# Altium integrated library Analog Devices Operational Amplifiers.IntLib: 2102 symbols (part 19 of 70)
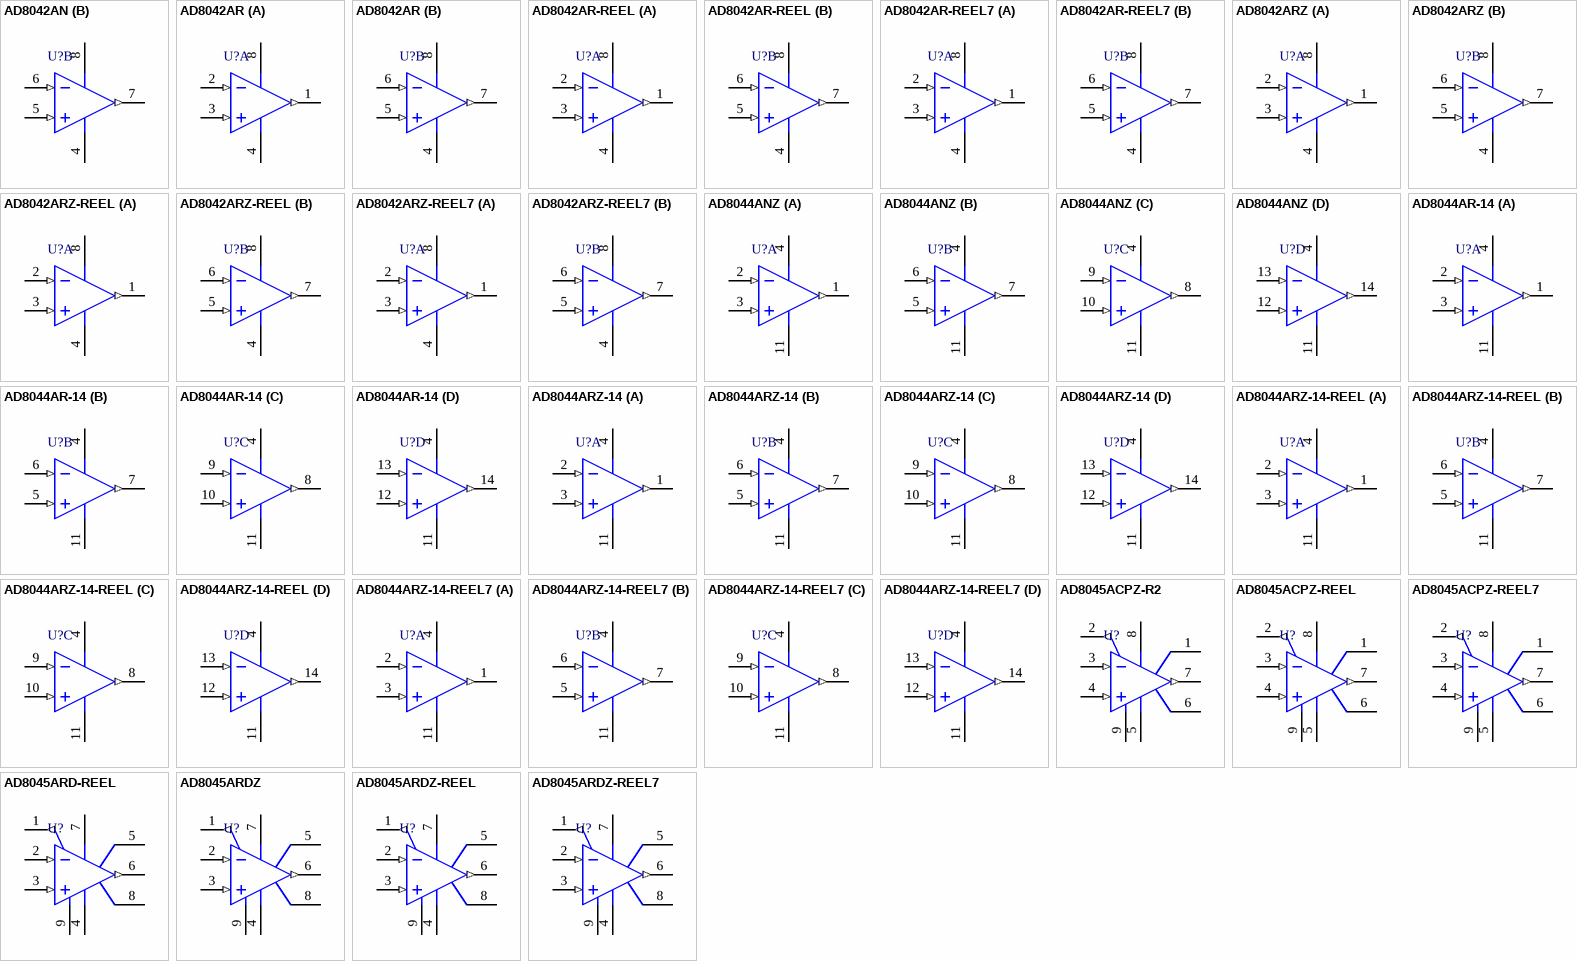
[diagram p132: symbols AD8042AN to AD8045ARDZ-REEL7]

## AD8042ARZ-REEL7
designator U?
Double Channel Low Power Operational Amplifier, 170 MHz BW, 225 V/us SR, Industrial, 8-pin SOIC (R-8), Reel; Generic Part Number: AD8042; Manufacturer: Analog Devices; PartNumber: AD8042ARZ-REEL7; Amplifiers Per Package: 2; Input Bias Current: 1.2uA; Input Offset Voltage: 3mV; Iq/Amp: 7mA; Small Signal Bandwidth: 170MHz; V Span Max: 12V; V Span Min: 3V; DatasheetVersion: Rev. E; PackageVersion: 060506-A; PackageReference: R-8; PackageDescription: 8-Pin Standard Small Outline Package, Body 3.9 x 4.9 mm, Pitch 1.27 mm; Supplier 1: Digi-Key; Supplier Part Number 1: AD8042ARZ-REEL7TR-ND; Supplier 2: Digi-Key; Supplier Part Number 2: AD8042ARZ-REEL7CT-ND; Supplier 3: Digi-Key; Supplier Part Number 3: AD8042ARZ-REEL7DKR-ND; Supplier 4: Newark; Supplier Part Number 4: 82H2957; Slew Rate: 225V/us; Mounting Technology: Surface Mount; Code_JEDEC: MS-012-AA; ComponentLink1Description: Manufacturer URL; ComponentLink1URL: http://www.analog.com/en/index.html; ComponentLink2Description: Datasheet; ComponentLink2URL: http://www.analog.com/static/imported-files/data_sheets/AD8042.pdf; ComponentLink3Description: Package Specification; ComponentLink3URL: http://www.analog.com/static/imported-files/packages/PKG_PDF/SOIC_Narrow%20(R)/R_8.pdf; ComponentLink4Description: Reference Circuit; ComponentLink4URL: http://www.analog.com/en/all-operational-amplifiers-op-amps/operational-amplifiers-op-amps/ad8042/products/product.html#product-recommendations
footprint ADI-R-8_N (SOIC, 8-Leads, Body 4.9x3.9mm, Pitch 1.27mm, IPC Medium Density)
footprint ADI-R-8_L (SOIC, 8-Leads, Body 4.9x3.9mm, Pitch 1.27mm, IPC High Density)
footprint ADI-R-8_M (SOIC, 8-Leads, Body 4.9x3.9mm, Pitch 1.27mm, IPC Low Density)
pins on every part: 4 -VS (power), 8 +VS (power)
part A pins: 1 OUT 1 (out), 2 -IN 1 (in), 3 +IN 1 (in)
part B pins: 5 +IN 2 (in), 6 -IN 2 (in), 7 OUT 2 (out)

## AD8044ANZ
designator U?
Quad Channel Low Power Operational Amplifier, 160 MHz BW, 190 V/us SR, Industrial, 14-pin DIP (N-14), Tube; Generic Part Number: AD8044; Manufacturer: Analog Devices; PartNumber: AD8044ANZ; Amplifiers Per Package: 4; Input Bias Current: 2uA; Input Offset Voltage: 1.4mV; Iq/Amp: 3.4mA; Small Signal Bandwidth: 160MHz; V Span Max: 12V; V Span Min: 3V; DatasheetVersion: Rev. B; PackageVersion: 070606-A; PackageReference: N-14; PackageDescription: 14-Pin Plastic Dual In-Line Package, Row spacing 7.62 mm, Pitch 2.54 mm; Supplier 1: Digi-Key; Supplier Part Number 1: AD8044ANZ-ND; Supplier 2: Farnell; Supplier Part Number 2: 2074887; Supplier 3: Newark; Supplier Part Number 3: 76T1824; Supplier 4: Newark; Supplier Part Number 4: 59K6278; Slew Rate: 190V/us; Mounting Technology: Through Hole; Code_JEDEC: MS-001; ComponentLink1Description: Manufacturer URL; ComponentLink1URL: http://www.analog.com/en/index.html; ComponentLink2Description: Datasheet; ComponentLink2URL: http://www.analog.com/static/imported-files/data_sheets/AD8044.pdf; ComponentLink3Description: Package Specification; ComponentLink3URL: http://www.analog.com/static/imported-files/packages/N_14.pdf
footprint ADI-N-14 (DIP, 14-Leads, Body 19.18x6.605mm, Pitch 2.54mm)
pins on every part: 4 +V (power), 11 -V (power)
part A pins: 1 OUT A (out), 2 -IN A (in), 3 +IN A (in)
part B pins: 5 +IN B (in), 6 -IN B (in), 7 OUT B (out)
part C pins: 8 OUT C (out), 9 -IN C (in), 10 +IN C (in)
part D pins: 12 +IN D (in), 13 -IN D (in), 14 OUT D (out)

## AD8044AR-14
designator U?
Quad Channel Low Power Operational Amplifier, 160 MHz BW, 190 V/us SR, Industrial, 14-pin SOIC (R-14), Tube; Generic Part Number: AD8044; Manufacturer: Analog Devices; PartNumber: AD8044AR-14; Amplifiers Per Package: 4; Input Bias Current: 2uA; Input Offset Voltage: 1.4mV; Iq/Amp: 3.4mA; Small Signal Bandwidth: 160MHz; V Span Max: 12V; V Span Min: 3V; DatasheetVersion: Rev. B; PackageVersion: 060606-A; PackageReference: R-14; PackageDescription: 14-Pin Standard Small Outline Package, Body 8.65 x 3.9 mm, Pitch 1.27 mm; Supplier 1: Digi-Key; Supplier Part Number 1: AD8044AR-14-ND; Slew Rate: 190V/us; Mounting Technology: Surface Mount; Code_JEDEC: MS-012-AB; ComponentLink1Description: Manufacturer URL; ComponentLink1URL: http://www.analog.com/en/index.html; ComponentLink2Description: Datasheet; ComponentLink2URL: http://www.analog.com/static/imported-files/data_sheets/AD8044.pdf; ComponentLink3Description: Package Specification; ComponentLink3URL: http://www.analog.com/static/imported-files/packages/PKG_PDF/SOIC_Narrow%20(R)/R_14.pdf
footprint ADI-R-14_N (SOIC, 14-Leads, Body 8.65x3.9mm, Pitch 1.27mm, IPC Medium Density)
footprint ADI-R-14_L (SOIC, 14-Leads, Body 8.65x3.9mm, Pitch 1.27mm, IPC High Density)
footprint ADI-R-14_M (SOIC, 14-Leads, Body 8.65x3.9mm, Pitch 1.27mm, IPC Low Density)
pins on every part: 4 +V (power), 11 -V (power)
part A pins: 1 OUT A (out), 2 -IN A (in), 3 +IN A (in)
part B pins: 5 +IN B (in), 6 -IN B (in), 7 OUT B (out)
part C pins: 8 OUT C (out), 9 -IN C (in), 10 +IN C (in)
part D pins: 12 +IN D (in), 13 -IN D (in), 14 OUT D (out)

## AD8044ARZ-14
designator U?
Quad Channel Low Power Operational Amplifier, 160 MHz BW, 190 V/us SR, Industrial, 14-pin SOIC (R-14), Tube; Generic Part Number: AD8044; Manufacturer: Analog Devices; PartNumber: AD8044ARZ-14; Amplifiers Per Package: 4; Input Bias Current: 2uA; Input Offset Voltage: 1.4mV; Iq/Amp: 3.4mA; Small Signal Bandwidth: 160MHz; V Span Max: 12V; V Span Min: 3V; DatasheetVersion: Rev. B; PackageVersion: 060606-A; PackageReference: R-14; PackageDescription: 14-Pin Standard Small Outline Package, Body 8.65 x 3.9 mm, Pitch 1.27 mm; Supplier 1: Digi-Key; Supplier Part Number 1: AD8044ARZ-14-ND; Supplier 2: Farnell; Supplier Part Number 2: 1660977; Supplier 3: Newark; Supplier Part Number 3: 59K6280; Slew Rate: 190V/us; Mounting Technology: Surface Mount; Code_JEDEC: MS-012-AB; ComponentLink1Description: Manufacturer URL; ComponentLink1URL: http://www.analog.com/en/index.html; ComponentLink2Description: Datasheet; ComponentLink2URL: http://www.analog.com/static/imported-files/data_sheets/AD8044.pdf; ComponentLink3Description: Package Specification; ComponentLink3URL: http://www.analog.com/static/imported-files/packages/PKG_PDF/SOIC_Narrow%20(R)/R_14.pdf
footprint ADI-R-14_N (SOIC, 14-Leads, Body 8.65x3.9mm, Pitch 1.27mm, IPC Medium Density)
footprint ADI-R-14_L (SOIC, 14-Leads, Body 8.65x3.9mm, Pitch 1.27mm, IPC High Density)
footprint ADI-R-14_M (SOIC, 14-Leads, Body 8.65x3.9mm, Pitch 1.27mm, IPC Low Density)
pins on every part: 4 +V (power), 11 -V (power)
part A pins: 1 OUT A (out), 2 -IN A (in), 3 +IN A (in)
part B pins: 5 +IN B (in), 6 -IN B (in), 7 OUT B (out)
part C pins: 8 OUT C (out), 9 -IN C (in), 10 +IN C (in)
part D pins: 12 +IN D (in), 13 -IN D (in), 14 OUT D (out)

## AD8044ARZ-14-REEL
designator U?
Quad Channel Low Power Operational Amplifier, 160 MHz BW, 190 V/us SR, Industrial, 14-pin SOIC (R-14), Reel; Generic Part Number: AD8044; Manufacturer: Analog Devices; PartNumber: AD8044ARZ-14-REEL; Amplifiers Per Package: 4; Input Bias Current: 2uA; Input Offset Voltage: 1.4mV; Iq/Amp: 3.4mA; Small Signal Bandwidth: 160MHz; V Span Max: 12V; V Span Min: 3V; DatasheetVersion: Rev. B; PackageVersion: 060606-A; PackageReference: R-14; PackageDescription: 14-Pin Standard Small Outline Package, Body 8.65 x 3.9 mm, Pitch 1.27 mm; Supplier 1: Digi-Key; Supplier Part Number 1: AD8044ARZ-14-REEL-ND; Supplier 2: Newark; Supplier Part Number 2: 59K6281; Slew Rate: 190V/us; Mounting Technology: Surface Mount; Code_JEDEC: MS-012-AB; ComponentLink1Description: Manufacturer URL; ComponentLink1URL: http://www.analog.com/en/index.html; ComponentLink2Description: Datasheet; ComponentLink2URL: http://www.analog.com/static/imported-files/data_sheets/AD8044.pdf; ComponentLink3Description: Package Specification; ComponentLink3URL: http://www.analog.com/static/imported-files/packages/PKG_PDF/SOIC_Narrow%20(R)/R_14.pdf
footprint ADI-R-14_N (SOIC, 14-Leads, Body 8.65x3.9mm, Pitch 1.27mm, IPC Medium Density)
footprint ADI-R-14_L (SOIC, 14-Leads, Body 8.65x3.9mm, Pitch 1.27mm, IPC High Density)
footprint ADI-R-14_M (SOIC, 14-Leads, Body 8.65x3.9mm, Pitch 1.27mm, IPC Low Density)
pins on every part: 4 +V (power), 11 -V (power)
part A pins: 1 OUT A (out), 2 -IN A (in), 3 +IN A (in)
part B pins: 5 +IN B (in), 6 -IN B (in), 7 OUT B (out)
part C pins: 8 OUT C (out), 9 -IN C (in), 10 +IN C (in)
part D pins: 12 +IN D (in), 13 -IN D (in), 14 OUT D (out)

## AD8044ARZ-14-REEL7
designator U?
Quad Channel Low Power Operational Amplifier, 160 MHz BW, 190 V/us SR, Industrial, 14-pin SOIC (R-14), Reel; Generic Part Number: AD8044; Manufacturer: Analog Devices; PartNumber: AD8044ARZ-14-REEL7; Amplifiers Per Package: 4; Input Bias Current: 2uA; Input Offset Voltage: 1.4mV; Iq/Amp: 3.4mA; Small Signal Bandwidth: 160MHz; V Span Max: 12V; V Span Min: 3V; DatasheetVersion: Rev. B; PackageVersion: 060606-A; PackageReference: R-14; PackageDescription: 14-Pin Standard Small Outline Package, Body 8.65 x 3.9 mm, Pitch 1.27 mm; Supplier 1: Digi-Key; Supplier Part Number 1: AD8044ARZ-14REEL7-ND; Slew Rate: 190V/us; Mounting Technology: Surface Mount; Code_JEDEC: MS-012-AB; ComponentLink1Description: Manufacturer URL; ComponentLink1URL: http://www.analog.com/en/index.html; ComponentLink2Description: Datasheet; ComponentLink2URL: http://www.analog.com/static/imported-files/data_sheets/AD8044.pdf; ComponentLink3Description: Package Specification; ComponentLink3URL: http://www.analog.com/static/imported-files/packages/PKG_PDF/SOIC_Narrow%20(R)/R_14.pdf
footprint ADI-R-14_N (SOIC, 14-Leads, Body 8.65x3.9mm, Pitch 1.27mm, IPC Medium Density)
footprint ADI-R-14_L (SOIC, 14-Leads, Body 8.65x3.9mm, Pitch 1.27mm, IPC High Density)
footprint ADI-R-14_M (SOIC, 14-Leads, Body 8.65x3.9mm, Pitch 1.27mm, IPC Low Density)
pins on every part: 4 +V (power), 11 -V (power)
part A pins: 1 OUT A (out), 2 -IN A (in), 3 +IN A (in)
part B pins: 5 +IN B (in), 6 -IN B (in), 7 OUT B (out)
part C pins: 8 OUT C (out), 9 -IN C (in), 10 +IN C (in)
part D pins: 12 +IN D (in), 13 -IN D (in), 14 OUT D (out)

## AD8045ACPZ-R2
designator U?
Single Channel Ultra Low Distortion  Operational Amplifier, 1 GHz BW, 1.35 KV/us SR, Industrial, 8-pin QFN (CP-8-2), Reel; Generic Part Number: AD8045; Manufacturer: Analog Devices; PartNumber: AD8045ACPZ-R2; Amplifiers Per Package: 1; Input Bias Current: 2uA; Input Offset Voltage: 200uV; Iq/Amp: 19mA; Small Signal Bandwidth: 1GHz; V Span Max: 12V; V Span Min: 3.3V; DatasheetVersion: Rev. A; PackageVersion: 061507-B; PackageReference: CP-8-2; PackageDescription: 8-Pin Lead Frame Chip Scale Package, Body 3 x 3 mm, Pitch 0.5 mm; Supplier 1: Farnell; Supplier Part Number 1: 1078299; Supplier 2: Farnell; Supplier Part Number 2: 1078299RL; Supplier 3: Newark; Supplier Part Number 3: 59K6288; Slew Rate: 1.35KV/us; Mounting Technology: Surface Mount; ComponentLink1Description: Manufacturer URL; ComponentLink1URL: http://www.analog.com/en/index.html; ComponentLink2Description: Datasheet; ComponentLink2URL: http://www.analog.com/static/imported-files/data_sheets/AD8045.pdf; ComponentLink3Description: Package Specification; ComponentLink3URL: http://www.analog.com/static/imported-files/packages/56953322593982CP_8_2.pdf
footprint ADI-CP-8-2_N (QFN, 8-Leads, Body 3x3mm, Pitch 0.5mm, Thermal Pad 1.45X1.74mm, IPC Medium Density)
footprint ADI-CP-8-2_L (QFN, 8-Leads, Body 3x3mm, Pitch 0.5mm, Thermal Pad 1.45X1.74mm, IPC High Density)
footprint ADI-CP-8-2_M (QFN, 8-Leads, Body 3x3mm, Pitch 0.5mm, Thermal Pad 1.45X1.74mm, IPC Low Density)
pins: 1 NC "No Connect", 2 FEEDBACK (out) "Feedback Pin", 3 -IN (in) "Inverting Input", 4 +IN (in) "Noninverting Input", 5 -VS (power) "Negative Supply", 6 NC "No Connect", 7 OUT (out) "Output", 8 +VS (power) "Positive Supply", 9 EP (power) "Must Be Connected to -VS or Electrically Isolated"

## AD8045ACPZ-REEL
designator U?
Single Channel Ultra Low Distortion  Operational Amplifier, 1 GHz BW, 1.35 KV/us SR, Industrial, 8-pin QFN (CP-8-2), Reel; Generic Part Number: AD8045; Manufacturer: Analog Devices; PartNumber: AD8045ACPZ-REEL; Amplifiers Per Package: 1; Input Bias Current: 2uA; Input Offset Voltage: 200uV; Iq/Amp: 19mA; Small Signal Bandwidth: 1GHz; V Span Max: 12V; V Span Min: 3.3V; DatasheetVersion: Rev. A; PackageVersion: 061507-B; PackageReference: CP-8-2; PackageDescription: 8-Pin Lead Frame Chip Scale Package, Body 3 x 3 mm, Pitch 0.5 mm; Supplier 1: Digi-Key; Supplier Part Number 1: AD8045ACPZ-REEL-ND; Supplier 2: Newark; Supplier Part Number 2: 59K6286; Slew Rate: 1.35KV/us; Mounting Technology: Surface Mount; ComponentLink1Description: Manufacturer URL; ComponentLink1URL: http://www.analog.com/en/index.html; ComponentLink2Description: Datasheet; ComponentLink2URL: http://www.analog.com/static/imported-files/data_sheets/AD8045.pdf; ComponentLink3Description: Package Specification; ComponentLink3URL: http://www.analog.com/static/imported-files/packages/56953322593982CP_8_2.pdf
footprint ADI-CP-8-2_N (QFN, 8-Leads, Body 3x3mm, Pitch 0.5mm, Thermal Pad 1.45X1.74mm, IPC Medium Density)
footprint ADI-CP-8-2_L (QFN, 8-Leads, Body 3x3mm, Pitch 0.5mm, Thermal Pad 1.45X1.74mm, IPC High Density)
footprint ADI-CP-8-2_M (QFN, 8-Leads, Body 3x3mm, Pitch 0.5mm, Thermal Pad 1.45X1.74mm, IPC Low Density)
pins: 1 NC "No Connect", 2 FEEDBACK (out) "Feedback Pin", 3 -IN (in) "Inverting Input", 4 +IN (in) "Noninverting Input", 5 -VS (power) "Negative Supply", 6 NC "No Connect", 7 OUT (out) "Output", 8 +VS (power) "Positive Supply", 9 EP (power) "Must Be Connected to -VS or Electrically Isolated"

## AD8045ACPZ-REEL7
designator U?
Single Channel Ultra Low Distortion  Operational Amplifier, 1 GHz BW, 1.35 KV/us SR, Industrial, 8-pin QFN (CP-8-2), Reel; Generic Part Number: AD8045; Manufacturer: Analog Devices; PartNumber: AD8045ACPZ-REEL7; Amplifiers Per Package: 1; Input Bias Current: 2uA; Input Offset Voltage: 200uV; Iq/Amp: 19mA; Small Signal Bandwidth: 1GHz; V Span Max: 12V; V Span Min: 3.3V; DatasheetVersion: Rev. A; PackageVersion: 061507-B; PackageReference: CP-8-2; PackageDescription: 8-Pin Lead Frame Chip Scale Package, Body 3 x 3 mm, Pitch 0.5 mm; Supplier 1: Digi-Key; Supplier Part Number 1: AD8045ACPZ-REEL7TR-ND; Supplier 2: Digi-Key; Supplier Part Number 2: AD8045ACPZ-REEL7CT-ND; Supplier 3: Digi-Key; Supplier Part Number 3: AD8045ACPZ-REEL7DKR-ND; Supplier 4: Newark; Supplier Part Number 4: 59K6287; Slew Rate: 1.35KV/us; Mounting Technology: Surface Mount; ComponentLink1Description: Manufacturer URL; ComponentLink1URL: http://www.analog.com/en/index.html; ComponentLink2Description: Datasheet; ComponentLink2URL: http://www.analog.com/static/imported-files/data_sheets/AD8045.pdf; ComponentLink3Description: Package Specification; ComponentLink3URL: http://www.analog.com/static/imported-files/packages/56953322593982CP_8_2.pdf
footprint ADI-CP-8-2_N (QFN, 8-Leads, Body 3x3mm, Pitch 0.5mm, Thermal Pad 1.45X1.74mm, IPC Medium Density)
footprint ADI-CP-8-2_L (QFN, 8-Leads, Body 3x3mm, Pitch 0.5mm, Thermal Pad 1.45X1.74mm, IPC High Density)
footprint ADI-CP-8-2_M (QFN, 8-Leads, Body 3x3mm, Pitch 0.5mm, Thermal Pad 1.45X1.74mm, IPC Low Density)
pins: 1 NC "No Connect", 2 FEEDBACK (out) "Feedback Pin", 3 -IN (in) "Inverting Input", 4 +IN (in) "Noninverting Input", 5 -VS (power) "Negative Supply", 6 NC "No Connect", 7 OUT (out) "Output", 8 +VS (power) "Positive Supply", 9 EP (power) "Must Be Connected to -VS or Electrically Isolated"

## AD8045ARD-REEL
designator U?
Single Channel Ultra Low Distortion  Operational Amplifier, 1 GHz BW, 1.35 KV/us SR, Industrial, 8-pin SOIC (RD-8-1), Reel; Generic Part Number: AD8045; Manufacturer: Analog Devices; PartNumber: AD8045ARD-REEL; Amplifiers Per Package: 1; Input Bias Current: 2uA; Input Offset Voltage: 200uV; Iq/Amp: 19mA; Small Signal Bandwidth: 1GHz; V Span Max: 12V; V Span Min: 3.3V; DatasheetVersion: Rev. A; PackageVersion: 060506-A; PackageReference: RD-8-1; PackageDescription: 8-Pin Standard Small Outline Package, Body 4.9 x 3.9 mm, Pitch 1.27 mm; Supplier 1: Newark; Supplier Part Number 1: 59K6290; Slew Rate: 1.35KV/us; Mounting Technology: Surface Mount; Code_JEDEC: MS-012-AA; ComponentLink1Description: Manufacturer URL; ComponentLink1URL: http://www.analog.com/en/index.html; ComponentLink2Description: Datasheet; ComponentLink2URL: http://www.analog.com/static/imported-files/data_sheets/AD8045.pdf; ComponentLink3Description: Package Specification; ComponentLink3URL: http://www.analog.com/static/imported-files/packages/PKG_PDF/SOIC_ED(RD)/RD_8_1.pdf
footprint ADI-RD-8-1_N (SOIC, 8-Leads, Body 4.9x3.9mm, Pitch 1.27mm, Thermal Pad 2.29x2.29mm, IPC Medium Density)
footprint ADI-RD-8-1_L (SOIC, 8-Leads, Body 4.9x3.9mm, Pitch 1.27mm, Thermal Pad 2.29x2.29mm, IPC High Density)
footprint ADI-RD-8-1_M (SOIC, 8-Leads, Body 4.9x3.9mm, Pitch 1.27mm, Thermal Pad 2.29x2.29mm, IPC Low Density)
pins: 1 FEEDBACK (out) "Feedback Pin", 2 -IN (in) "Inverting Input", 3 +IN (in) "Noninverting Input", 4 -VS (power) "Negative Supply", 5 NC, 6 OUT (out) "Output", 7 +VS (power) "Positive Supply", 8 NC, 9 EP (power) "Must Be Connected to -VS or Electrically Isolated"

## AD8045ARDZ
designator U?
Single Channel Ultra Low Distortion  Operational Amplifier, 1 GHz BW, 1.35 KV/us SR, Industrial, 8-pin SOIC (RD-8-1), Tube; Generic Part Number: AD8045; Manufacturer: Analog Devices; PartNumber: AD8045ARDZ; Amplifiers Per Package: 1; Input Bias Current: 2uA; Input Offset Voltage: 200uV; Iq/Amp: 19mA; Small Signal Bandwidth: 1GHz; V Span Max: 12V; V Span Min: 3.3V; DatasheetVersion: Rev. A; PackageVersion: 060506-A; PackageReference: RD-8-1; PackageDescription: 8-Pin Standard Small Outline Package, Body 4.9 x 3.9 mm, Pitch 1.27 mm; Supplier 1: Digi-Key; Supplier Part Number 1: AD8045ARDZ-ND; Supplier 2: Farnell; Supplier Part Number 2: 9079424; Supplier 3: Newark; Supplier Part Number 3: 19M0920; Slew Rate: 1.35KV/us; Mounting Technology: Surface Mount; Code_JEDEC: MS-012-AA; ComponentLink1Description: Manufacturer URL; ComponentLink1URL: http://www.analog.com/en/index.html; ComponentLink2Description: Datasheet; ComponentLink2URL: http://www.analog.com/static/imported-files/data_sheets/AD8045.pdf; ComponentLink3Description: Package Specification; ComponentLink3URL: http://www.analog.com/static/imported-files/packages/PKG_PDF/SOIC_ED(RD)/RD_8_1.pdf
footprint ADI-RD-8-1_N (SOIC, 8-Leads, Body 4.9x3.9mm, Pitch 1.27mm, Thermal Pad 2.29x2.29mm, IPC Medium Density)
footprint ADI-RD-8-1_L (SOIC, 8-Leads, Body 4.9x3.9mm, Pitch 1.27mm, Thermal Pad 2.29x2.29mm, IPC High Density)
footprint ADI-RD-8-1_M (SOIC, 8-Leads, Body 4.9x3.9mm, Pitch 1.27mm, Thermal Pad 2.29x2.29mm, IPC Low Density)
pins: 1 FEEDBACK (out) "Feedback Pin", 2 -IN (in) "Inverting Input", 3 +IN (in) "Noninverting Input", 4 -VS (power) "Negative Supply", 5 NC, 6 OUT (out) "Output", 7 +VS (power) "Positive Supply", 8 NC, 9 EP (power) "Must Be Connected to -VS or Electrically Isolated"

## AD8045ARDZ-REEL
designator U?
Single Channel Ultra Low Distortion  Operational Amplifier, 1 GHz BW, 1.35 KV/us SR, Industrial, 8-pin SOIC (RD-8-1), Reel; Generic Part Number: AD8045; Manufacturer: Analog Devices; PartNumber: AD8045ARDZ-REEL; Amplifiers Per Package: 1; Input Bias Current: 2uA; Input Offset Voltage: 200uV; Iq/Amp: 19mA; Small Signal Bandwidth: 1GHz; V Span Max: 12V; V Span Min: 3.3V; DatasheetVersion: Rev. A; PackageVersion: 060506-A; PackageReference: RD-8-1; PackageDescription: 8-Pin Standard Small Outline Package, Body 4.9 x 3.9 mm, Pitch 1.27 mm; Supplier 1: Digi-Key; Supplier Part Number 1: AD8045ARDZ-REEL-ND; Slew Rate: 1.35KV/us; Mounting Technology: Surface Mount; Code_JEDEC: MS-012-AA; ComponentLink1Description: Manufacturer URL; ComponentLink1URL: http://www.analog.com/en/index.html; ComponentLink2Description: Datasheet; ComponentLink2URL: http://www.analog.com/static/imported-files/data_sheets/AD8045.pdf; ComponentLink3Description: Package Specification; ComponentLink3URL: http://www.analog.com/static/imported-files/packages/PKG_PDF/SOIC_ED(RD)/RD_8_1.pdf
footprint ADI-RD-8-1_N (SOIC, 8-Leads, Body 4.9x3.9mm, Pitch 1.27mm, Thermal Pad 2.29x2.29mm, IPC Medium Density)
footprint ADI-RD-8-1_L (SOIC, 8-Leads, Body 4.9x3.9mm, Pitch 1.27mm, Thermal Pad 2.29x2.29mm, IPC High Density)
footprint ADI-RD-8-1_M (SOIC, 8-Leads, Body 4.9x3.9mm, Pitch 1.27mm, Thermal Pad 2.29x2.29mm, IPC Low Density)
pins: 1 FEEDBACK (out) "Feedback Pin", 2 -IN (in) "Inverting Input", 3 +IN (in) "Noninverting Input", 4 -VS (power) "Negative Supply", 5 NC, 6 OUT (out) "Output", 7 +VS (power) "Positive Supply", 8 NC, 9 EP (power) "Must Be Connected to -VS or Electrically Isolated"

## AD8045ARDZ-REEL7
designator U?
Single Channel Ultra Low Distortion  Operational Amplifier, 1 GHz BW, 1.35 KV/us SR, Industrial, 8-pin SOIC (RD-8-1), Reel; Generic Part Number: AD8045; Manufacturer: Analog Devices; PartNumber: AD8045ARDZ-REEL7; Amplifiers Per Package: 1; Input Bias Current: 2uA; Input Offset Voltage: 200uV; Iq/Amp: 19mA; Small Signal Bandwidth: 1GHz; V Span Max: 12V; V Span Min: 3.3V; DatasheetVersion: Rev. A; PackageVersion: 060506-A; PackageReference: RD-8-1; PackageDescription: 8-Pin Standard Small Outline Package, Body 4.9 x 3.9 mm, Pitch 1.27 mm; Supplier 1: Digi-Key; Supplier Part Number 1: AD8045ARDZ-REEL7-ND; Slew Rate: 1.35KV/us; Mounting Technology: Surface Mount; Code_JEDEC: MS-012-AA; ComponentLink1Description: Manufacturer URL; ComponentLink1URL: http://www.analog.com/en/index.html; ComponentLink2Description: Datasheet; ComponentLink2URL: http://www.analog.com/static/imported-files/data_sheets/AD8045.pdf; ComponentLink3Description: Package Specification; ComponentLink3URL: http://www.analog.com/static/imported-files/packages/PKG_PDF/SOIC_ED(RD)/RD_8_1.pdf
footprint ADI-RD-8-1_N (SOIC, 8-Leads, Body 4.9x3.9mm, Pitch 1.27mm, Thermal Pad 2.29x2.29mm, IPC Medium Density)
footprint ADI-RD-8-1_L (SOIC, 8-Leads, Body 4.9x3.9mm, Pitch 1.27mm, Thermal Pad 2.29x2.29mm, IPC High Density)
footprint ADI-RD-8-1_M (SOIC, 8-Leads, Body 4.9x3.9mm, Pitch 1.27mm, Thermal Pad 2.29x2.29mm, IPC Low Density)
pins: 1 FEEDBACK (out) "Feedback Pin", 2 -IN (in) "Inverting Input", 3 +IN (in) "Noninverting Input", 4 -VS (power) "Negative Supply", 5 NC, 6 OUT (out) "Output", 7 +VS (power) "Positive Supply", 8 NC, 9 EP (power) "Must Be Connected to -VS or Electrically Isolated"

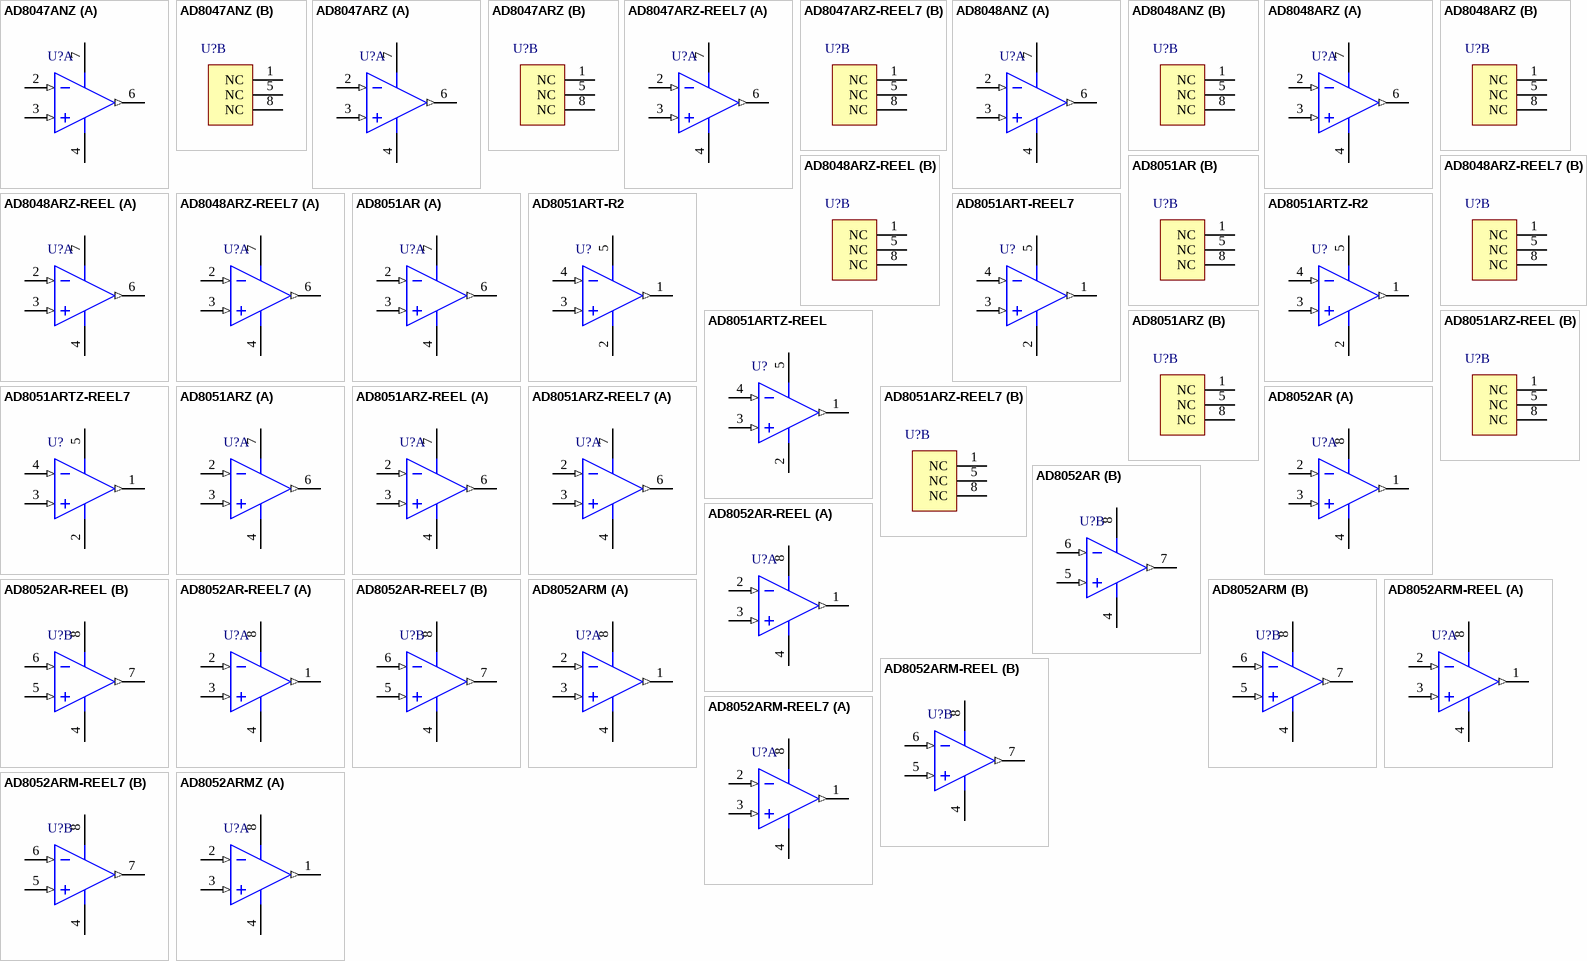
[diagram p28: symbols AD8047ANZ to AD8052ARMZ]

## AD8047ANZ
designator U?
Single Channel Wide Bandwidth Operational Amplifier, 250 MHz BW, 750 V/us SR, Industrial, 8-pin DIP (N-8), Tube; Generic Part Number: AD8047; Manufacturer: Analog Devices; PartNumber: AD8047ANZ; Amplifiers Per Package: 1; Input Bias Current: 1uA; Input Offset Voltage: 1mV; Iq/Amp: 6.6mA; Small Signal Bandwidth: 250MHz; V Span Max: 12V; V Span Min: 6V; DatasheetVersion: Rev. A; PackageVersion: 070606-A; PackageReference: N-8; PackageDescription: 8-Pin Plastic Dual In-Line Package, Row spacing 7.62 mm, Pitch 2.54 mm; Supplier 1: Digi-Key; Supplier Part Number 1: AD8047ANZ-ND; Supplier 2: Newark; Supplier Part Number 2: 59K6295; Slew Rate: 750V/us; Mounting Technology: Through Hole; Code_JEDEC: MS-001; ComponentLink1Description: Manufacturer URL; ComponentLink1URL: http://www.analog.com/en/index.html; ComponentLink2Description: Datasheet; ComponentLink2URL: http://www.analog.com/static/imported-files/data_sheets/AD8047_8048.pdf; ComponentLink3Description: Package Specification; ComponentLink3URL: http:/www.analog.com/static/imported-files/packages/PKG_PDF/PDIP(N)/N_8.pdf
footprint ADI-N-8 (DIP, 8-Leads, Body 9.59x6.6mm, Pitch 2.54mm)
part A pins: 2 -IN (in), 3 +IN (in), 4 -VS (power), 6 OUT (out), 7 +VS (power)
part B pins: 1 NC, 5 NC, 8 NC

## AD8047ARZ
designator U?
Single Channel Wide Bandwidth Operational Amplifier, 250 MHz BW, 750 V/us SR, Industrial, 8-pin SOIC (R-8), Tube; Generic Part Number: AD8047; Manufacturer: Analog Devices; PartNumber: AD8047ARZ; Amplifiers Per Package: 1; Input Bias Current: 1uA; Input Offset Voltage: 1mV; Iq/Amp: 6.6mA; Small Signal Bandwidth: 250MHz; V Span Max: 12V; V Span Min: 6V; DatasheetVersion: Rev. A; PackageVersion: 060506-A; PackageReference: R-8; PackageDescription: 8-Pin Standard Small Outline Package, Body 3.9 x 4.9 mm, Pitch 1.27 mm; Supplier 1: Digi-Key; Supplier Part Number 1: AD8047ARZ-ND; Supplier 2: Farnell; Supplier Part Number 2: 1424034; Supplier 3: Newark; Supplier Part Number 3: 88H0132; Slew Rate: 750V/us; Mounting Technology: Surface Mount; Code_JEDEC: MS-012-AA; ComponentLink1Description: Manufacturer URL; ComponentLink1URL: http://www.analog.com/en/index.html; ComponentLink2Description: Datasheet; ComponentLink2URL: http://www.analog.com/static/imported-files/data_sheets/AD8047_8048.pdf; ComponentLink3Description: Package Specification; ComponentLink3URL: http://www.analog.com/static/imported-files/packages/PKG_PDF/SOIC_Narrow%20(R)/R_8.pdf
footprint ADI-R-8_N (SOIC, 8-Leads, Body 4.9x3.9mm, Pitch 1.27mm, IPC Medium Density)
footprint ADI-R-8_L (SOIC, 8-Leads, Body 4.9x3.9mm, Pitch 1.27mm, IPC High Density)
footprint ADI-R-8_M (SOIC, 8-Leads, Body 4.9x3.9mm, Pitch 1.27mm, IPC Low Density)
part A pins: 2 -IN (in), 3 +IN (in), 4 -VS (power), 6 OUT (out), 7 +VS (power)
part B pins: 1 NC, 5 NC, 8 NC

## AD8047ARZ-REEL7
designator U?
Single Channel Wide Bandwidth Operational Amplifier, 250 MHz BW, 750 V/us SR, Industrial, 8-pin SOIC (R-8), Reel; Generic Part Number: AD8047; Manufacturer: Analog Devices; PartNumber: AD8047ARZ-REEL7; Amplifiers Per Package: 1; Input Bias Current: 1uA; Input Offset Voltage: 1mV; Iq/Amp: 6.6mA; Small Signal Bandwidth: 250MHz; V Span Max: 12V; V Span Min: 6V; DatasheetVersion: Rev. A; PackageVersion: 060506-A; PackageReference: R-8; PackageDescription: 8-Pin Standard Small Outline Package, Body 3.9 x 4.9 mm, Pitch 1.27 mm; Supplier 1: Digi-Key; Supplier Part Number 1: AD8047ARZ-REEL7-ND; Supplier 2: Newark; Supplier Part Number 2: 88H0134; Slew Rate: 750V/us; Mounting Technology: Surface Mount; Code_JEDEC: MS-012-AA; ComponentLink1Description: Manufacturer URL; ComponentLink1URL: http://www.analog.com/en/index.html; ComponentLink2Description: Datasheet; ComponentLink2URL: http://www.analog.com/static/imported-files/data_sheets/AD8047_8048.pdf; ComponentLink3Description: Package Specification; ComponentLink3URL: http://www.analog.com/static/imported-files/packages/PKG_PDF/SOIC_Narrow%20(R)/R_8.pdf
footprint ADI-R-8_N (SOIC, 8-Leads, Body 4.9x3.9mm, Pitch 1.27mm, IPC Medium Density)
footprint ADI-R-8_L (SOIC, 8-Leads, Body 4.9x3.9mm, Pitch 1.27mm, IPC High Density)
footprint ADI-R-8_M (SOIC, 8-Leads, Body 4.9x3.9mm, Pitch 1.27mm, IPC Low Density)
part A pins: 2 -IN (in), 3 +IN (in), 4 -VS (power), 6 OUT (out), 7 +VS (power)
part B pins: 1 NC, 5 NC, 8 NC

## AD8048ANZ
designator U?
Single Channel Wide Bandwidth Operational Amplifier, 260 MHz BW, 1 KV/us SR, Industrial, 8-pin DIP (N-8), Tube; Generic Part Number: AD8048; Manufacturer: Analog Devices; PartNumber: AD8048ANZ; Amplifiers Per Package: 1; Input Bias Current: 1uA; Input Offset Voltage: 1mV; Iq/Amp: 6.6mA; Slew Rate: 1KV/us; Small Signal Bandwidth: 260MHz; V Span Max: 12V; V Span Min: 6V; DatasheetVersion: Rev. A; PackageVersion: 070606-A; PackageReference: N-8; PackageDescription: 8-Pin Plastic Dual In-Line Package, Row spacing 7.62 mm, Pitch 2.54 mm; Supplier 1: Digi-Key; Supplier Part Number 1: AD8048ANZ-ND; Mounting Technology: Through Hole; Code_JEDEC: MS-001; ComponentLink1Description: Manufacturer URL; ComponentLink1URL: http://www.analog.com/en/index.html; ComponentLink2Description: Datasheet; ComponentLink2URL: http://www.analog.com/static/imported-files/data_sheets/AD8047_8048.pdf; ComponentLink3Description: Package Specification; ComponentLink3URL: http:/www.analog.com/static/imported-files/packages/PKG_PDF/PDIP(N)/N_8.pdf
footprint ADI-N-8 (DIP, 8-Leads, Body 9.59x6.6mm, Pitch 2.54mm)
part A pins: 2 -IN (in), 3 +IN (in), 4 -VS (power), 6 OUT (out), 7 +VS (power)
part B pins: 1 NC, 5 NC, 8 NC

## AD8048ARZ
designator U?
Single Channel Wide Bandwidth Operational Amplifier, 260 MHz BW, 1 KV/us SR, Industrial, 8-pin SOIC (R-8), Tube; Generic Part Number: AD8048; Manufacturer: Analog Devices; PartNumber: AD8048ARZ; Amplifiers Per Package: 1; Input Bias Current: 1uA; Input Offset Voltage: 1mV; Iq/Amp: 6.6mA; Slew Rate: 1KV/us; Small Signal Bandwidth: 260MHz; V Span Max: 12V; V Span Min: 6V; DatasheetVersion: Rev. A; PackageVersion: 060506-A; PackageReference: R-8; PackageDescription: 8-Pin Standard Small Outline Package, Body 3.9 x 4.9 mm, Pitch 1.27 mm; Supplier 1: Digi-Key; Supplier Part Number 1: AD8048ARZ-ND; Supplier 2: Newark; Supplier Part Number 2: 88H0135; Mounting Technology: Surface Mount; Code_JEDEC: MS-012-AA; ComponentLink1Description: Manufacturer URL; ComponentLink1URL: http://www.analog.com/en/index.html; ComponentLink2Description: Datasheet; ComponentLink2URL: http://www.analog.com/static/imported-files/data_sheets/AD8047_8048.pdf; ComponentLink3Description: Package Specification; ComponentLink3URL: http://www.analog.com/static/imported-files/packages/PKG_PDF/SOIC_Narrow%20(R)/R_8.pdf
footprint ADI-R-8_N (SOIC, 8-Leads, Body 4.9x3.9mm, Pitch 1.27mm, IPC Medium Density)
footprint ADI-R-8_L (SOIC, 8-Leads, Body 4.9x3.9mm, Pitch 1.27mm, IPC High Density)
footprint ADI-R-8_M (SOIC, 8-Leads, Body 4.9x3.9mm, Pitch 1.27mm, IPC Low Density)
part A pins: 2 -IN (in), 3 +IN (in), 4 -VS (power), 6 OUT (out), 7 +VS (power)
part B pins: 1 NC, 5 NC, 8 NC

## AD8048ARZ-REEL
designator U?
Single Channel Wide Bandwidth Operational Amplifier, 260 MHz BW, 1 KV/us SR, Industrial, 8-pin SOIC (R-8), Reel; Generic Part Number: AD8048; Manufacturer: Analog Devices; PartNumber: AD8048ARZ-REEL; Amplifiers Per Package: 1; Input Bias Current: 1uA; Input Offset Voltage: 1mV; Iq/Amp: 6.6mA; Slew Rate: 1KV/us; Small Signal Bandwidth: 260MHz; V Span Max: 12V; V Span Min: 6V; DatasheetVersion: Rev. A; PackageVersion: 060506-A; PackageReference: R-8; PackageDescription: 8-Pin Standard Small Outline Package, Body 3.9 x 4.9 mm, Pitch 1.27 mm; Mounting Technology: Surface Mount; Code_JEDEC: MS-012-AA; ComponentLink1Description: Manufacturer URL; ComponentLink1URL: http://www.analog.com/en/index.html; ComponentLink2Description: Datasheet; ComponentLink2URL: http://www.analog.com/static/imported-files/data_sheets/AD8047_8048.pdf; ComponentLink3Description: Package Specification; ComponentLink3URL: http://www.analog.com/static/imported-files/packages/PKG_PDF/SOIC_Narrow%20(R)/R_8.pdf
footprint ADI-R-8_N (SOIC, 8-Leads, Body 4.9x3.9mm, Pitch 1.27mm, IPC Medium Density)
footprint ADI-R-8_L (SOIC, 8-Leads, Body 4.9x3.9mm, Pitch 1.27mm, IPC High Density)
footprint ADI-R-8_M (SOIC, 8-Leads, Body 4.9x3.9mm, Pitch 1.27mm, IPC Low Density)
part A pins: 2 -IN (in), 3 +IN (in), 4 -VS (power), 6 OUT (out), 7 +VS (power)
part B pins: 1 NC, 5 NC, 8 NC

## AD8048ARZ-REEL7
designator U?
Single Channel Wide Bandwidth Operational Amplifier, 260 MHz BW, 1 KV/us SR, Industrial, 8-pin SOIC (R-8), Reel; Generic Part Number: AD8048; Manufacturer: Analog Devices; PartNumber: AD8048ARZ-REEL7; Amplifiers Per Package: 1; Input Bias Current: 1uA; Input Offset Voltage: 1mV; Iq/Amp: 6.6mA; Slew Rate: 1KV/us; Small Signal Bandwidth: 260MHz; V Span Max: 12V; V Span Min: 6V; DatasheetVersion: Rev. A; PackageVersion: 060506-A; PackageReference: R-8; PackageDescription: 8-Pin Standard Small Outline Package, Body 3.9 x 4.9 mm, Pitch 1.27 mm; Supplier 1: Digi-Key; Supplier Part Number 1: AD8048ARZ-REEL7-ND; Mounting Technology: Surface Mount; Code_JEDEC: MS-012-AA; ComponentLink1Description: Manufacturer URL; ComponentLink1URL: http://www.analog.com/en/index.html; ComponentLink2Description: Datasheet; ComponentLink2URL: http://www.analog.com/static/imported-files/data_sheets/AD8047_8048.pdf; ComponentLink3Description: Package Specification; ComponentLink3URL: http://www.analog.com/static/imported-files/packages/PKG_PDF/SOIC_Narrow%20(R)/R_8.pdf
footprint ADI-R-8_N (SOIC, 8-Leads, Body 4.9x3.9mm, Pitch 1.27mm, IPC Medium Density)
footprint ADI-R-8_L (SOIC, 8-Leads, Body 4.9x3.9mm, Pitch 1.27mm, IPC High Density)
footprint ADI-R-8_M (SOIC, 8-Leads, Body 4.9x3.9mm, Pitch 1.27mm, IPC Low Density)
part A pins: 2 -IN (in), 3 +IN (in), 4 -VS (power), 6 OUT (out), 7 +VS (power)
part B pins: 1 NC, 5 NC, 8 NC

## AD8051AR
designator U?
Single Channel Single-Supply Operation Operational Amplifier, 110 MHz BW, 170 V/us SR, Industrial, 8-pin SOIC (R-8), Tube; Generic Part Number: AD8051; Manufacturer: Analog Devices; PartNumber: AD8051AR; Amplifiers Per Package: 1; Input Bias Current: 1.4uA; Input Offset Voltage: 1.7mV; Iq/Amp: 5.5mA; Small Signal Bandwidth: 110MHz; V Span Max: 12V; V Span Min: 3V; DatasheetVersion: Rev. J; PackageVersion: 060506-A; PackageReference: R-8; PackageDescription: 8-Pin Standard Small Outline Package, Body 3.9 x 4.9 mm, Pitch 1.27 mm; Supplier 1: Digi-Key; Supplier Part Number 1: AD8051AR-ND; Packing: Tube; Slew Rate: 170V/us; Mounting Technology: Surface Mount; Code_JEDEC: MS-012-AA; ComponentLink1Description: Manufacturer URL; ComponentLink1URL: http://www.analog.com/en/index.html; ComponentLink2Description: Datasheet; ComponentLink2URL: http://www.analog.com/static/imported-files/data_sheets/AD8051_8052_8054.pdf; ComponentLink3Description: Package Specification; ComponentLink3URL: http://www.analog.com/static/imported-files/packages/PKG_PDF/SOIC_Narrow%20(R)/R_8.pdf
footprint ADI-R-8_N (SOIC, 8-Leads, Body 4.9x3.9mm, Pitch 1.27mm, IPC Medium Density)
footprint ADI-R-8_L (SOIC, 8-Leads, Body 4.9x3.9mm, Pitch 1.27mm, IPC High Density)
footprint ADI-R-8_M (SOIC, 8-Leads, Body 4.9x3.9mm, Pitch 1.27mm, IPC Low Density)
part A pins: 2 -IN (in), 3 +IN (in), 4 -VS (power), 6 VOUT (out), 7 +VS (power)
part B pins: 1 NC, 5 NC, 8 NC

## AD8051ART-R2
designator U?
Single Channel Single-Supply Operation Operational Amplifier, 110 MHz BW, 170 V/us SR, Industrial, 5-pin SOT23 (RJ-5), Reel; Generic Part Number: AD8051; Manufacturer: Analog Devices; PartNumber: AD8051ART-R2; Amplifiers Per Package: 1; Input Bias Current: 1.4uA; Input Offset Voltage: 1.7mV; Iq/Amp: 5.5mA; Small Signal Bandwidth: 110MHz; V Span Max: 12V; V Span Min: 3V; DatasheetVersion: Rev. J; PackageVersion: 121608-A; PackageReference: RJ-5; PackageDescription: 5-Pin Small Outline Transistor Package, Body 2.9 x 1.6 mm, Pitch 0.95 mm; Supplier 1: Newark; Supplier Part Number 1: 19M8877; Packing: Reel; Slew Rate: 170V/us; Mounting Technology: Surface Mount; Code_JEDEC: MO-178-AA; ComponentLink1Description: Manufacturer URL; ComponentLink1URL: http://www.analog.com/en/index.html; ComponentLink2Description: Datasheet; ComponentLink2URL: http://www.analog.com/static/imported-files/data_sheets/AD8051_8052_8054.pdf; ComponentLink3Description: Package Specification; ComponentLink3URL: http://www.analog.com/static/imported-files/packages/PKG_PDF/SOT-23(RJ)/RJ_5.pdf
footprint ADI-RJ-5_N (SOT-23, 5-Leads, Body 2.9x1.6mm, Pitch 0.95mm, IPC Medium Density)
footprint ADI-RJ-5_L (SOT-23, 5-Leads, Body 2.9x1.6mm, Pitch 0.95mm, IPC High Density)
footprint ADI-RJ-5_M (SOT-23, 5-Leads, Body 2.9x1.6mm, Pitch 0.95mm, IPC Low Density)
pins: 1 VOUT (out), 2 -VS (power), 3 +IN (in), 4 -IN (in), 5 +VS (power)

## AD8051ART-REEL7
designator U?
Single Channel Single-Supply Operation Operational Amplifier, 110 MHz BW, 170 V/us SR, Industrial, 5-pin SOT23 (RJ-5), Reel; Generic Part Number: AD8051; Manufacturer: Analog Devices; PartNumber: AD8051ART-REEL7; Amplifiers Per Package: 1; Input Bias Current: 1.4uA; Input Offset Voltage: 1.7mV; Iq/Amp: 5.5mA; Small Signal Bandwidth: 110MHz; V Span Max: 12V; V Span Min: 3V; DatasheetVersion: Rev. J; PackageVersion: 121608-A; PackageReference: RJ-5; PackageDescription: 5-Pin Small Outline Transistor Package, Body 2.9 x 1.6 mm, Pitch 0.95 mm; Supplier 1: Digi-Key; Supplier Part Number 1: AD8051ART-REEL7TR-ND; Supplier 2: Digi-Key; Supplier Part Number 2: AD8051ART-REEL7CT-ND; Supplier 3: Newark; Supplier Part Number 3: 09B6403; Packing: Reel; Slew Rate: 170V/us; Mounting Technology: Surface Mount; Code_JEDEC: MO-178-AA; ComponentLink1Description: Manufacturer URL; ComponentLink1URL: http://www.analog.com/en/index.html; ComponentLink2Description: Datasheet; ComponentLink2URL: http://www.analog.com/static/imported-files/data_sheets/AD8051_8052_8054.pdf; ComponentLink3Description: Package Specification; ComponentLink3URL: http://www.analog.com/static/imported-files/packages/PKG_PDF/SOT-23(RJ)/RJ_5.pdf
footprint ADI-RJ-5_N (SOT-23, 5-Leads, Body 2.9x1.6mm, Pitch 0.95mm, IPC Medium Density)
footprint ADI-RJ-5_L (SOT-23, 5-Leads, Body 2.9x1.6mm, Pitch 0.95mm, IPC High Density)
footprint ADI-RJ-5_M (SOT-23, 5-Leads, Body 2.9x1.6mm, Pitch 0.95mm, IPC Low Density)
pins: 1 VOUT (out), 2 -VS (power), 3 +IN (in), 4 -IN (in), 5 +VS (power)

## AD8051ARTZ-R2
designator U?
Single Channel Single-Supply Operation Operational Amplifier, 110 MHz BW, 170 V/us SR, Industrial, 5-pin SOT23 (RJ-5), Reel; Generic Part Number: AD8051; Manufacturer: Analog Devices; PartNumber: AD8051ARTZ-R2; Amplifiers Per Package: 1; Input Bias Current: 1.4uA; Input Offset Voltage: 1.7mV; Iq/Amp: 5.5mA; Small Signal Bandwidth: 110MHz; V Span Max: 12V; V Span Min: 3V; DatasheetVersion: Rev. J; PackageVersion: 121608-A; PackageReference: RJ-5; PackageDescription: 5-Pin Small Outline Transistor Package, Body 2.9 x 1.6 mm, Pitch 0.95 mm; Supplier 1: Newark; Supplier Part Number 1: 59K6298; Packing: Reel; Slew Rate: 170V/us; Mounting Technology: Surface Mount; Code_JEDEC: MO-178-AA; ComponentLink1Description: Manufacturer URL; ComponentLink1URL: http://www.analog.com/en/index.html; ComponentLink2Description: Datasheet; ComponentLink2URL: http://www.analog.com/static/imported-files/data_sheets/AD8051_8052_8054.pdf; ComponentLink3Description: Package Specification; ComponentLink3URL: http://www.analog.com/static/imported-files/packages/PKG_PDF/SOT-23(RJ)/RJ_5.pdf
footprint ADI-RJ-5_N (SOT-23, 5-Leads, Body 2.9x1.6mm, Pitch 0.95mm, IPC Medium Density)
footprint ADI-RJ-5_L (SOT-23, 5-Leads, Body 2.9x1.6mm, Pitch 0.95mm, IPC High Density)
footprint ADI-RJ-5_M (SOT-23, 5-Leads, Body 2.9x1.6mm, Pitch 0.95mm, IPC Low Density)
pins: 1 VOUT (out), 2 -VS (power), 3 +IN (in), 4 -IN (in), 5 +VS (power)

## AD8051ARTZ-REEL
designator U?
Single Channel Single-Supply Operation Operational Amplifier, 110 MHz BW, 170 V/us SR, Industrial, 5-pin SOT23 (RJ-5), Reel; Generic Part Number: AD8051; Manufacturer: Analog Devices; PartNumber: AD8051ARTZ-REEL; Amplifiers Per Package: 1; Input Bias Current: 1.4uA; Input Offset Voltage: 1.7mV; Iq/Amp: 5.5mA; Small Signal Bandwidth: 110MHz; V Span Max: 12V; V Span Min: 3V; DatasheetVersion: Rev. J; PackageVersion: 121608-A; PackageReference: RJ-5; PackageDescription: 5-Pin Small Outline Transistor Package, Body 2.9 x 1.6 mm, Pitch 0.95 mm; Supplier 1: Digi-Key; Supplier Part Number 1: AD8051ARTZ-REEL-ND; Supplier 2: Newark; Supplier Part Number 2: 59K6297; Packing: Reel; Slew Rate: 170V/us; Mounting Technology: Surface Mount; Code_JEDEC: MO-178-AA; ComponentLink1Description: Manufacturer URL; ComponentLink1URL: http://www.analog.com/en/index.html; ComponentLink2Description: Datasheet; ComponentLink2URL: http://www.analog.com/static/imported-files/data_sheets/AD8051_8052_8054.pdf; ComponentLink3Description: Package Specification; ComponentLink3URL: http://www.analog.com/static/imported-files/packages/PKG_PDF/SOT-23(RJ)/RJ_5.pdf
footprint ADI-RJ-5_N (SOT-23, 5-Leads, Body 2.9x1.6mm, Pitch 0.95mm, IPC Medium Density)
footprint ADI-RJ-5_L (SOT-23, 5-Leads, Body 2.9x1.6mm, Pitch 0.95mm, IPC High Density)
footprint ADI-RJ-5_M (SOT-23, 5-Leads, Body 2.9x1.6mm, Pitch 0.95mm, IPC Low Density)
pins: 1 VOUT (out), 2 -VS (power), 3 +IN (in), 4 -IN (in), 5 +VS (power)

## AD8051ARTZ-REEL7
designator U?
Single Channel Single-Supply Operation Operational Amplifier, 110 MHz BW, 170 V/us SR, Industrial, 5-pin SOT23 (RJ-5), Reel; Generic Part Number: AD8051; Manufacturer: Analog Devices; PartNumber: AD8051ARTZ-REEL7; Amplifiers Per Package: 1; Input Bias Current: 1.4uA; Input Offset Voltage: 1.7mV; Iq/Amp: 5.5mA; Small Signal Bandwidth: 110MHz; V Span Max: 12V; V Span Min: 3V; DatasheetVersion: Rev. J; PackageVersion: 121608-A; PackageReference: RJ-5; PackageDescription: 5-Pin Small Outline Transistor Package, Body 2.9 x 1.6 mm, Pitch 0.95 mm; Supplier 1: Digi-Key; Supplier Part Number 1: AD8051ARTZ-REEL7TR-ND; Supplier 2: Digi-Key; Supplier Part Number 2: AD8051ARTZ-REEL7CT-ND; Supplier 3: Digi-Key; Supplier Part Number 3: AD8051ARTZ-REEL7DKR-ND; Supplier 4: Newark; Supplier Part Number 4: 82H2958; Packing: Reel; Slew Rate: 170V/us; Mounting Technology: Surface Mount; Code_JEDEC: MO-178-AA; ComponentLink1Description: Manufacturer URL; ComponentLink1URL: http://www.analog.com/en/index.html; ComponentLink2Description: Datasheet; ComponentLink2URL: http://www.analog.com/static/imported-files/data_sheets/AD8051_8052_8054.pdf; ComponentLink3Description: Package Specification; ComponentLink3URL: http://www.analog.com/static/imported-files/packages/PKG_PDF/SOT-23(RJ)/RJ_5.pdf
footprint ADI-RJ-5_N (SOT-23, 5-Leads, Body 2.9x1.6mm, Pitch 0.95mm, IPC Medium Density)
footprint ADI-RJ-5_L (SOT-23, 5-Leads, Body 2.9x1.6mm, Pitch 0.95mm, IPC High Density)
footprint ADI-RJ-5_M (SOT-23, 5-Leads, Body 2.9x1.6mm, Pitch 0.95mm, IPC Low Density)
pins: 1 VOUT (out), 2 -VS (power), 3 +IN (in), 4 -IN (in), 5 +VS (power)

## AD8051ARZ
designator U?
Single Channel Single-Supply Operation Operational Amplifier, 110 MHz BW, 170 V/us SR, Industrial, 8-pin SOIC (R-8), Tube; Generic Part Number: AD8051; Manufacturer: Analog Devices; PartNumber: AD8051ARZ; Amplifiers Per Package: 1; Input Bias Current: 1.4uA; Input Offset Voltage: 1.7mV; Iq/Amp: 5.5mA; Small Signal Bandwidth: 110MHz; V Span Max: 12V; V Span Min: 3V; DatasheetVersion: Rev. J; PackageVersion: 060506-A; PackageReference: R-8; PackageDescription: 8-Pin Standard Small Outline Package, Body 3.9 x 4.9 mm, Pitch 1.27 mm; Supplier 1: Digi-Key; Supplier Part Number 1: AD8051ARZ-ND; Supplier 2: Farnell; Supplier Part Number 2: 9425608; Supplier 3: Newark; Supplier Part Number 3: 31M4458; Supplier 4: Newark; Supplier Part Number 4: 19M0921; Packing: Tube; Slew Rate: 170V/us; Mounting Technology: Surface Mount; Code_JEDEC: MS-012-AA; ComponentLink1Description: Manufacturer URL; ComponentLink1URL: http://www.analog.com/en/index.html; ComponentLink2Description: Datasheet; ComponentLink2URL: http://www.analog.com/static/imported-files/data_sheets/AD8051_8052_8054.pdf; ComponentLink3Description: Package Specification; ComponentLink3URL: http://www.analog.com/static/imported-files/packages/PKG_PDF/SOIC_Narrow%20(R)/R_8.pdf
footprint ADI-R-8_N (SOIC, 8-Leads, Body 4.9x3.9mm, Pitch 1.27mm, IPC Medium Density)
footprint ADI-R-8_L (SOIC, 8-Leads, Body 4.9x3.9mm, Pitch 1.27mm, IPC High Density)
footprint ADI-R-8_M (SOIC, 8-Leads, Body 4.9x3.9mm, Pitch 1.27mm, IPC Low Density)
part A pins: 2 -IN (in), 3 +IN (in), 4 -VS (power), 6 VOUT (out), 7 +VS (power)
part B pins: 1 NC, 5 NC, 8 NC

## AD8051ARZ-REEL
designator U?
Single Channel Single-Supply Operation Operational Amplifier, 110 MHz BW, 170 V/us SR, Industrial, 8-pin SOIC (R-8), Reel; Generic Part Number: AD8051; Manufacturer: Analog Devices; PartNumber: AD8051ARZ-REEL; Amplifiers Per Package: 1; Input Bias Current: 1.4uA; Input Offset Voltage: 1.7mV; Iq/Amp: 5.5mA; Small Signal Bandwidth: 110MHz; V Span Max: 12V; V Span Min: 3V; DatasheetVersion: Rev. J; PackageVersion: 060506-A; PackageReference: R-8; PackageDescription: 8-Pin Standard Small Outline Package, Body 3.9 x 4.9 mm, Pitch 1.27 mm; Supplier 1: Digi-Key; Supplier Part Number 1: AD8051ARZ-REEL-ND; Packing: Reel; Slew Rate: 170V/us; Mounting Technology: Surface Mount; Code_JEDEC: MS-012-AA; ComponentLink1Description: Manufacturer URL; ComponentLink1URL: http://www.analog.com/en/index.html; ComponentLink2Description: Datasheet; ComponentLink2URL: http://www.analog.com/static/imported-files/data_sheets/AD8051_8052_8054.pdf; ComponentLink3Description: Package Specification; ComponentLink3URL: http://www.analog.com/static/imported-files/packages/PKG_PDF/SOIC_Narrow%20(R)/R_8.pdf
footprint ADI-R-8_N (SOIC, 8-Leads, Body 4.9x3.9mm, Pitch 1.27mm, IPC Medium Density)
footprint ADI-R-8_L (SOIC, 8-Leads, Body 4.9x3.9mm, Pitch 1.27mm, IPC High Density)
footprint ADI-R-8_M (SOIC, 8-Leads, Body 4.9x3.9mm, Pitch 1.27mm, IPC Low Density)
part A pins: 2 -IN (in), 3 +IN (in), 4 -VS (power), 6 VOUT (out), 7 +VS (power)
part B pins: 1 NC, 5 NC, 8 NC

## AD8051ARZ-REEL7
designator U?
Single Channel Single-Supply Operation Operational Amplifier, 110 MHz BW, 170 V/us SR, Industrial, 8-pin SOIC (R-8), Reel; Generic Part Number: AD8051; Manufacturer: Analog Devices; PartNumber: AD8051ARZ-REEL7; Amplifiers Per Package: 1; Input Bias Current: 1.4uA; Input Offset Voltage: 1.7mV; Iq/Amp: 5.5mA; Small Signal Bandwidth: 110MHz; V Span Max: 12V; V Span Min: 3V; DatasheetVersion: Rev. J; PackageVersion: 060506-A; PackageReference: R-8; PackageDescription: 8-Pin Standard Small Outline Package, Body 3.9 x 4.9 mm, Pitch 1.27 mm; Supplier 1: Digi-Key; Supplier Part Number 1: AD8051ARZ-REEL7-ND; Supplier 2: Newark; Supplier Part Number 2: 88H0140; Packing: Reel; Slew Rate: 170V/us; Mounting Technology: Surface Mount; Code_JEDEC: MS-012-AA; ComponentLink1Description: Manufacturer URL; ComponentLink1URL: http://www.analog.com/en/index.html; ComponentLink2Description: Datasheet; ComponentLink2URL: http://www.analog.com/static/imported-files/data_sheets/AD8051_8052_8054.pdf; ComponentLink3Description: Package Specification; ComponentLink3URL: http://www.analog.com/static/imported-files/packages/PKG_PDF/SOIC_Narrow%20(R)/R_8.pdf
footprint ADI-R-8_N (SOIC, 8-Leads, Body 4.9x3.9mm, Pitch 1.27mm, IPC Medium Density)
footprint ADI-R-8_L (SOIC, 8-Leads, Body 4.9x3.9mm, Pitch 1.27mm, IPC High Density)
footprint ADI-R-8_M (SOIC, 8-Leads, Body 4.9x3.9mm, Pitch 1.27mm, IPC Low Density)
part A pins: 2 -IN (in), 3 +IN (in), 4 -VS (power), 6 VOUT (out), 7 +VS (power)
part B pins: 1 NC, 5 NC, 8 NC

## AD8052AR
designator U?
Double Channel Single-Supply Operation Operational Amplifier, 110 MHz BW, 170 V/us SR, Industrial, 8-pin SOIC (R-8), Tube; Generic Part Number: AD8052; Manufacturer: Analog Devices; PartNumber: AD8052AR; Amplifiers Per Package: 2; Input Bias Current: 1.4uA; Input Offset Voltage: 1.7mV; Iq/Amp: 5.5mA; Small Signal Bandwidth: 110MHz; V Span Max: 12V; V Span Min: 3V; DatasheetVersion: Rev. J; PackageVersion: 060506-A; PackageReference: R-8; PackageDescription: 8-Pin Standard Small Outline Package, Body 3.9 x 4.9 mm, Pitch 1.27 mm; Supplier 1: Digi-Key; Supplier Part Number 1: AD8052AR-ND; Packing: Tube; Slew Rate: 170V/us; Mounting Technology: Surface Mount; Code_JEDEC: MS-012-AA; ComponentLink1Description: Manufacturer URL; ComponentLink1URL: http://www.analog.com/en/index.html; ComponentLink2Description: Datasheet; ComponentLink2URL: http://www.analog.com/static/imported-files/data_sheets/AD8051_8052_8054.pdf; ComponentLink3Description: Package Specification; ComponentLink3URL: http://www.analog.com/static/imported-files/packages/PKG_PDF/SOIC_Narrow%20(R)/R_8.pdf
footprint ADI-R-8_N (SOIC, 8-Leads, Body 4.9x3.9mm, Pitch 1.27mm, IPC Medium Density)
footprint ADI-R-8_L (SOIC, 8-Leads, Body 4.9x3.9mm, Pitch 1.27mm, IPC High Density)
footprint ADI-R-8_M (SOIC, 8-Leads, Body 4.9x3.9mm, Pitch 1.27mm, IPC Low Density)
pins on every part: 4 -VS (power), 8 +VS (power)
part A pins: 1 OUT 1 (out), 2 -IN 1 (in), 3 +IN 1 (in)
part B pins: 5 +IN 2 (in), 6 -IN 2 (in), 7 OUT 2 (out)

## AD8052AR-REEL
designator U?
Double Channel Single-Supply Operation Operational Amplifier, 110 MHz BW, 170 V/us SR, Industrial, 8-pin SOIC (R-8), Reel; Generic Part Number: AD8052; Manufacturer: Analog Devices; PartNumber: AD8052AR-REEL; Amplifiers Per Package: 2; Input Bias Current: 1.4uA; Input Offset Voltage: 1.7mV; Iq/Amp: 5.5mA; Small Signal Bandwidth: 110MHz; V Span Max: 12V; V Span Min: 3V; DatasheetVersion: Rev. J; PackageVersion: 060506-A; PackageReference: R-8; PackageDescription: 8-Pin Standard Small Outline Package, Body 3.9 x 4.9 mm, Pitch 1.27 mm; Supplier 1: Digi-Key; Supplier Part Number 1: AD8052AR-REEL-ND; Supplier 2: Newark; Supplier Part Number 2: 09B6406; Packing: Reel; Slew Rate: 170V/us; Mounting Technology: Surface Mount; Code_JEDEC: MS-012-AA; ComponentLink1Description: Manufacturer URL; ComponentLink1URL: http://www.analog.com/en/index.html; ComponentLink2Description: Datasheet; ComponentLink2URL: http://www.analog.com/static/imported-files/data_sheets/AD8051_8052_8054.pdf; ComponentLink3Description: Package Specification; ComponentLink3URL: http://www.analog.com/static/imported-files/packages/PKG_PDF/SOIC_Narrow%20(R)/R_8.pdf
footprint ADI-R-8_N (SOIC, 8-Leads, Body 4.9x3.9mm, Pitch 1.27mm, IPC Medium Density)
footprint ADI-R-8_L (SOIC, 8-Leads, Body 4.9x3.9mm, Pitch 1.27mm, IPC High Density)
footprint ADI-R-8_M (SOIC, 8-Leads, Body 4.9x3.9mm, Pitch 1.27mm, IPC Low Density)
pins on every part: 4 -VS (power), 8 +VS (power)
part A pins: 1 OUT 1 (out), 2 -IN 1 (in), 3 +IN 1 (in)
part B pins: 5 +IN 2 (in), 6 -IN 2 (in), 7 OUT 2 (out)